# EAGLE library part MAX884 (library 1_USER)
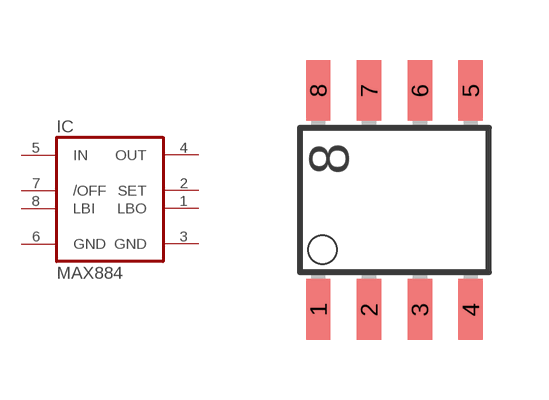
[diagram p14: symbol with the pads of SO8; footprint SO8]

Designator prefix IC

## MAX884  [SO8]
1  LBO  out
2  SET  in
3  GND  pwr
4  OUT  out
5  IN  in
6  GND  pwr
7  /OFF  in
8  LBI  in

## Footprint SO8 (pad centres in mm)
smd 0.61 x 1.524: 1 -1.27,-2.743; 2 0,-2.743; 3 1.27,-2.743; 4 2.54,-2.743; 5 2.54,2.743; 6 1.27,2.743; 7 0,2.743; 8 -1.27,2.743